# Altium schematic symbol library SCH - MCU - STM32 - ST MICROELECTRONICS STM32F373V(8-B-C)TX LQFP100.SchLib: 1 symbol
Pins are listed as number, name and electrical type; pins without a type are passive.

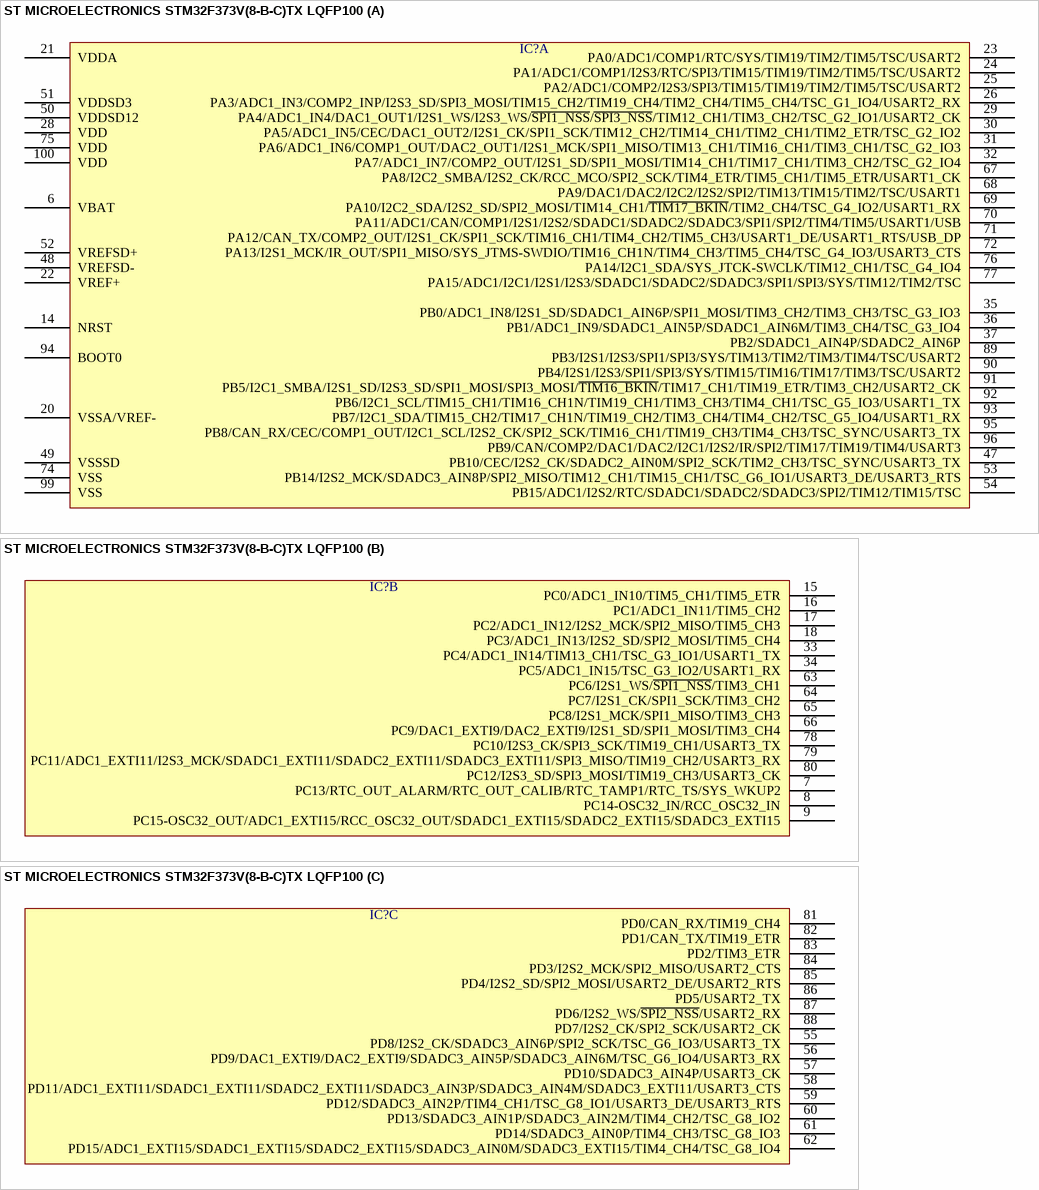
[diagram p0: symbol ST MICROELECTRONICS STM32F373V(8-B-C)TX LQFP100]

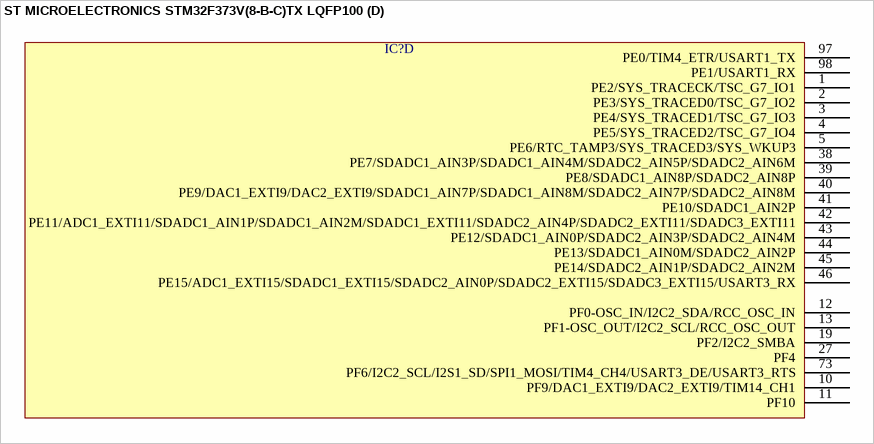
[diagram p1: symbol ST MICROELECTRONICS STM32F373V(8-B-C)TX LQFP100]

## ST MICROELECTRONICS STM32F373V(8-B-C)TX LQFP100
designator IC?  (value not drawn)
part A pins: 6 VBAT, 14 NRST, 20 VSSA/VREF-, 21 VDDA, 22 VREF+, 23 PA0/ADC1/COMP1/RTC/SYS/TIM19/TIM2/TIM5/TSC/USART2, 24 PA1/ADC1/COMP1/I2S3/RTC/SPI3/TIM15/TIM19/TIM2/TIM5/TSC/USART2, 25 PA2/ADC1/COMP2/I2S3/SPI3/TIM15/TIM19/TIM2/TIM5/TSC/USART2, 26 PA3/ADC1_IN3/COMP2_INP/I2S3_SD/SPI3_MOSI/TIM15_CH2/TIM19_CH4/TIM2_CH4/TIM5_CH4/TSC_G1_IO4/USART2_RX, 28 VDD, 29 PA4/ADC1_IN4/DAC1_OUT1/I2S1_WS/I2S3_WS/~{SPI1_NSS}/~{SPI3_NSS}/TIM12_CH1/TIM3_CH2/TSC_G2_IO1/USART2_CK, 30 PA5/ADC1_IN5/CEC/DAC1_OUT2/I2S1_CK/SPI1_SCK/TIM12_CH2/TIM14_CH1/TIM2_CH1/TIM2_ETR/TSC_G2_IO2, 31 PA6/ADC1_IN6/COMP1_OUT/DAC2_OUT1/I2S1_MCK/SPI1_MISO/TIM13_CH1/TIM16_CH1/TIM3_CH1/TSC_G2_IO3, 32 PA7/ADC1_IN7/COMP2_OUT/I2S1_SD/SPI1_MOSI/TIM14_CH1/TIM17_CH1/TIM3_CH2/TSC_G2_IO4, 35 PB0/ADC1_IN8/I2S1_SD/SDADC1_AIN6P/SPI1_MOSI/TIM3_CH2/TIM3_CH3/TSC_G3_IO3, 36 PB1/ADC1_IN9/SDADC1_AIN5P/SDADC1_AIN6M/TIM3_CH4/TSC_G3_IO4, 37 PB2/SDADC1_AIN4P/SDADC2_AIN6P, 47 PB10/CEC/I2S2_CK/SDADC2_AIN0M/SPI2_SCK/TIM2_CH3/TSC_SYNC/USART3_TX, 48 VREFSD-, 49 VSSSD, 50 VDDSD12, 51 VDDSD3, 52 VREFSD+, 53 PB14/I2S2_MCK/SDADC3_AIN8P/SPI2_MISO/TIM12_CH1/TIM15_CH1/TSC_G6_IO1/USART3_DE/USART3_RTS, 54 PB15/ADC1/I2S2/RTC/SDADC1/SDADC2/SDADC3/SPI2/TIM12/TIM15/TSC, 67 PA8/I2C2_SMBA/I2S2_CK/RCC_MCO/SPI2_SCK/TIM4_ETR/TIM5_CH1/TIM5_ETR/USART1_CK, 68 PA9/DAC1/DAC2/I2C2/I2S2/SPI2/TIM13/TIM15/TIM2/TSC/USART1, 69 PA10/I2C2_SDA/I2S2_SD/SPI2_MOSI/TIM14_CH1/~{TIM17_BKIN}/TIM2_CH4/TSC_G4_IO2/USART1_RX, 70 PA11/ADC1/CAN/COMP1/I2S1/I2S2/SDADC1/SDADC2/SDADC3/SPI1/SPI2/TIM4/TIM5/USART1/USB, 71 PA12/CAN_TX/COMP2_OUT/I2S1_CK/SPI1_SCK/TIM16_CH1/TIM4_CH2/TIM5_CH3/USART1_DE/USART1_RTS/USB_DP, 72 PA13/I2S1_MCK/IR_OUT/SPI1_MISO/SYS_JTMS-SWDIO/TIM16_CH1N/TIM4_CH3/TIM5_CH4/TSC_G4_IO3/USART3_CTS, 74 VSS, 75 VDD, 76 PA14/I2C1_SDA/SYS_JTCK-SWCLK/TIM12_CH1/TSC_G4_IO4, 77 PA15/ADC1/I2C1/I2S1/I2S3/SDADC1/SDADC2/SDADC3/SPI1/SPI3/SYS/TIM12/TIM2/TSC, 89 PB3/I2S1/I2S3/SPI1/SPI3/SYS/TIM13/TIM2/TIM3/TIM4/TSC/USART2, 90 PB4/I2S1/I2S3/SPI1/SPI3/SYS/TIM15/TIM16/TIM17/TIM3/TSC/USART2, 91 PB5/I2C1_SMBA/I2S1_SD/I2S3_SD/SPI1_MOSI/SPI3_MOSI/~{TIM16_BKIN}/TIM17_CH1/TIM19_ETR/TIM3_CH2/USART2_CK, 92 PB6/I2C1_SCL/TIM15_CH1/TIM16_CH1N/TIM19_CH1/TIM3_CH3/TIM4_CH1/TSC_G5_IO3/USART1_TX, 93 PB7/I2C1_SDA/TIM15_CH2/TIM17_CH1N/TIM19_CH2/TIM3_CH4/TIM4_CH2/TSC_G5_IO4/USART1_RX, 94 BOOT0, 95 PB8/CAN_RX/CEC/COMP1_OUT/I2C1_SCL/I2S2_CK/SPI2_SCK/TIM16_CH1/TIM19_CH3/TIM4_CH3/TSC_SYNC/USART3_TX, 96 PB9/CAN/COMP2/DAC1/DAC2/I2C1/I2S2/IR/SPI2/TIM17/TIM19/TIM4/USART3, 99 VSS, 100 VDD
part B pins: 7 PC13/RTC_OUT_ALARM/RTC_OUT_CALIB/RTC_TAMP1/RTC_TS/SYS_WKUP2, 8 PC14-OSC32_IN/RCC_OSC32_IN, 9 PC15-OSC32_OUT/ADC1_EXTI15/RCC_OSC32_OUT/SDADC1_EXTI15/SDADC2_EXTI15/SDADC3_EXTI15, 15 PC0/ADC1_IN10/TIM5_CH1/TIM5_ETR, 16 PC1/ADC1_IN11/TIM5_CH2, 17 PC2/ADC1_IN12/I2S2_MCK/SPI2_MISO/TIM5_CH3, 18 PC3/ADC1_IN13/I2S2_SD/SPI2_MOSI/TIM5_CH4, 33 PC4/ADC1_IN14/TIM13_CH1/TSC_G3_IO1/USART1_TX, 34 PC5/ADC1_IN15/TSC_G3_IO2/USART1_RX, 63 PC6/I2S1_WS/~{SPI1_NSS}/TIM3_CH1, 64 PC7/I2S1_CK/SPI1_SCK/TIM3_CH2, 65 PC8/I2S1_MCK/SPI1_MISO/TIM3_CH3, 66 PC9/DAC1_EXTI9/DAC2_EXTI9/I2S1_SD/SPI1_MOSI/TIM3_CH4, 78 PC10/I2S3_CK/SPI3_SCK/TIM19_CH1/USART3_TX, 79 PC11/ADC1_EXTI11/I2S3_MCK/SDADC1_EXTI11/SDADC2_EXTI11/SDADC3_EXTI11/SPI3_MISO/TIM19_CH2/USART3_RX, 80 PC12/I2S3_SD/SPI3_MOSI/TIM19_CH3/USART3_CK
part C pins: 55 PD8/I2S2_CK/SDADC3_AIN6P/SPI2_SCK/TSC_G6_IO3/USART3_TX, 56 PD9/DAC1_EXTI9/DAC2_EXTI9/SDADC3_AIN5P/SDADC3_AIN6M/TSC_G6_IO4/USART3_RX, 57 PD10/SDADC3_AIN4P/USART3_CK, 58 PD11/ADC1_EXTI11/SDADC1_EXTI11/SDADC2_EXTI11/SDADC3_AIN3P/SDADC3_AIN4M/SDADC3_EXTI11/USART3_CTS, 59 PD12/SDADC3_AIN2P/TIM4_CH1/TSC_G8_IO1/USART3_DE/USART3_RTS, 60 PD13/SDADC3_AIN1P/SDADC3_AIN2M/TIM4_CH2/TSC_G8_IO2, 61 PD14/SDADC3_AIN0P/TIM4_CH3/TSC_G8_IO3, 62 PD15/ADC1_EXTI15/SDADC1_EXTI15/SDADC2_EXTI15/SDADC3_AIN0M/SDADC3_EXTI15/TIM4_CH4/TSC_G8_IO4, 81 PD0/CAN_RX/TIM19_CH4, 82 PD1/CAN_TX/TIM19_ETR, 83 PD2/TIM3_ETR, 84 PD3/I2S2_MCK/SPI2_MISO/USART2_CTS, 85 PD4/I2S2_SD/SPI2_MOSI/USART2_DE/USART2_RTS, 86 PD5/USART2_TX, 87 PD6/I2S2_WS/~{SPI2_NSS}/USART2_RX, 88 PD7/I2S2_CK/SPI2_SCK/USART2_CK
part D pins: 1 PE2/SYS_TRACECK/TSC_G7_IO1, 2 PE3/SYS_TRACED0/TSC_G7_IO2, 3 PE4/SYS_TRACED1/TSC_G7_IO3, 4 PE5/SYS_TRACED2/TSC_G7_IO4, 5 PE6/RTC_TAMP3/SYS_TRACED3/SYS_WKUP3, 10 PF9/DAC1_EXTI9/DAC2_EXTI9/TIM14_CH1, 11 PF10, 12 PF0-OSC_IN/I2C2_SDA/RCC_OSC_IN, 13 PF1-OSC_OUT/I2C2_SCL/RCC_OSC_OUT, 19 PF2/I2C2_SMBA, 27 PF4, 38 PE7/SDADC1_AIN3P/SDADC1_AIN4M/SDADC2_AIN5P/SDADC2_AIN6M, 39 PE8/SDADC1_AIN8P/SDADC2_AIN8P, 40 PE9/DAC1_EXTI9/DAC2_EXTI9/SDADC1_AIN7P/SDADC1_AIN8M/SDADC2_AIN7P/SDADC2_AIN8M, 41 PE10/SDADC1_AIN2P, 42 PE11/ADC1_EXTI11/SDADC1_AIN1P/SDADC1_AIN2M/SDADC1_EXTI11/SDADC2_AIN4P/SDADC2_EXTI11/SDADC3_EXTI11, 43 PE12/SDADC1_AIN0P/SDADC2_AIN3P/SDADC2_AIN4M, 44 PE13/SDADC1_AIN0M/SDADC2_AIN2P, 45 PE14/SDADC2_AIN1P/SDADC2_AIN2M, 46 PE15/ADC1_EXTI15/SDADC1_EXTI15/SDADC2_AIN0P/SDADC2_EXTI15/SDADC3_EXTI15/USART3_RX, 73 PF6/I2C2_SCL/I2S1_SD/SPI1_MOSI/TIM4_CH4/USART3_DE/USART3_RTS, 97 PE0/TIM4_ETR/USART1_TX, 98 PE1/USART1_RX